# EAGLE library part 750311992 (library Wurth Electronics Midcom Inc V1-0)
Package Style: Speedy EE16/7/5 8W THT Mounting: THT Pins: 10 pins Bobbin: 070-5472 Windings Primary: Aux: Secondary: Best pinouts for production vary per application. Please contact Wurth Electronics Midcom, Inc. for assistance with your custom design. Datasheet: 750311992 <http://www.we-online.com/web/en/index.php/show/media/passive_components_-_custom_magnetics/pdf_doc_files/spec_sheets/7503/750311992.pdf> Website: Wurth Electronics Midcom <http://www.we-online.com/midcom> Contact us Wurth Electronics Midcom, Inc. 121 Airport Dr. Watertown, SD 57201 Phone: (605) 886-4385 Fax: (605) 886-4486 E-Mail: midcom@we-online.com
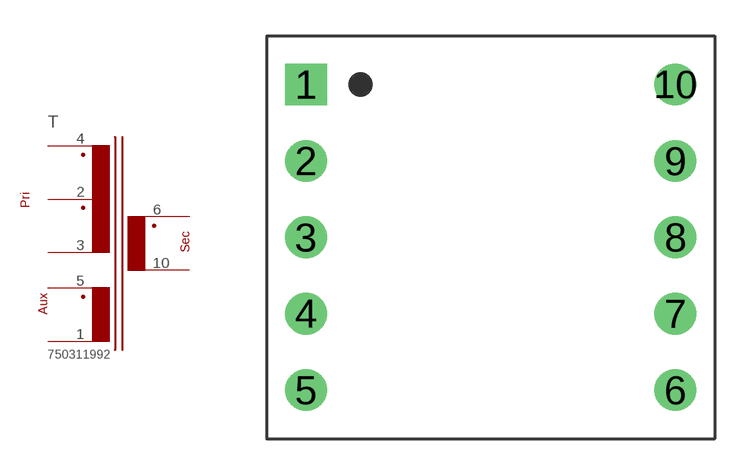
[diagram p68: symbol with the pads of 00SPEEDY_EE16/7/5_THT_H_10PIN; footprint 00SPEEDY_EE16/7/5_THT_H_10PIN]

Designator prefix T

## 750311992  [00SPEEDY_EE16/7/5_THT_H_10PIN]
1  5  pas
2  2  pas
3  3  pas
4  1  pas
5  4  pas
6  7  pas
10  8  pas

## Footprint 00SPEEDY_EE16/7/5_THT_H_10PIN (pad centres in mm)
Package Style: Speedy EE16/7/5 Mounting: THT Pins: 10 pins Bobbin: 070-5472
drill 1.168 square: 1 -7.747,6.401
drill 1.168 round: 2 -7.747,3.2; 3 -7.747,0; 4 -7.747,-3.2; 5 -7.747,-6.401; 6 7.747,-6.401; 7 7.747,-3.2; 8 7.747,0; 9 7.747,3.2; 10 7.747,6.401